# Altium footprint library REG_3.3V_D2PAK.PcbLib: 1 footprints
Each footprint in its own frame and in the unit in brackets; x right, y up, seen from the top. Pads: shape width x height; smd on the part's side, far side on the other; paste and mask are expansions set on the pad; w line width, h text height; cw(c..) or ccw(c..) is an arc to the next point about the centre after c.
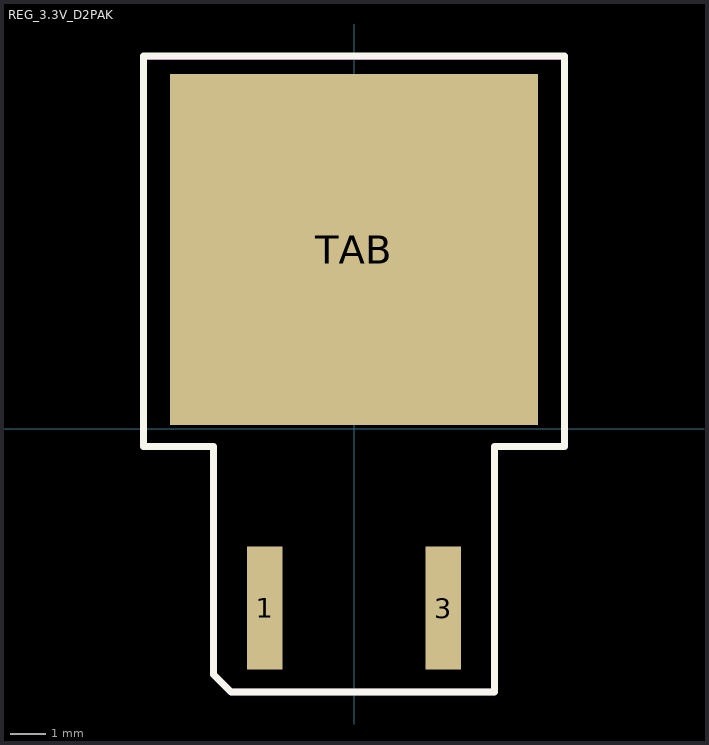
[diagram p0: the footprint, top view; thin cyan lines are the x and y axes]

## REG_3.3V_D2PAK [mil]
pads (3):
  rect 40x137.95 smd: 1(-100,-201.04) 3(100,-201.04)
  rect 412.99x393.7 smd: TAB(0,201.04)
Top Overlay:
  lines w7.87: -236.22,-19.68 -196.85,-19.68 -157.48,-19.68 -157.48,-275.59 -137.8,-295.28 157.48,-295.28 157.48,-19.68 236.22,-19.68 236.22,418.31 14.76,418.31 -236.22,418.31 -236.22,-19.68
Mechanical 29:
  lines w7.87: -236.22,-19.68 -196.85,-19.68 -157.48,-19.68 -157.48,-275.59 -137.8,-295.28 157.48,-295.28 157.48,-19.68 236.22,-19.68 236.22,417.32 15.75,417.32 -236.22,417.32 -236.22,-19.68
  text ".Designator" at -129.92,220.47 h47.24
3D body "REG_3.3V_D2PAK.step": height 190.12, standoff -2.01, extent -196.49,-202.87 196.5,323.23